# Altium schematic symbol library SCH - MCU - STM32 - ST MICROELECTRONICS STM32H563RIVX VFQFPN68.SchLib: 1 symbol
Pins are listed as number, name and electrical type; pins without a type are passive.

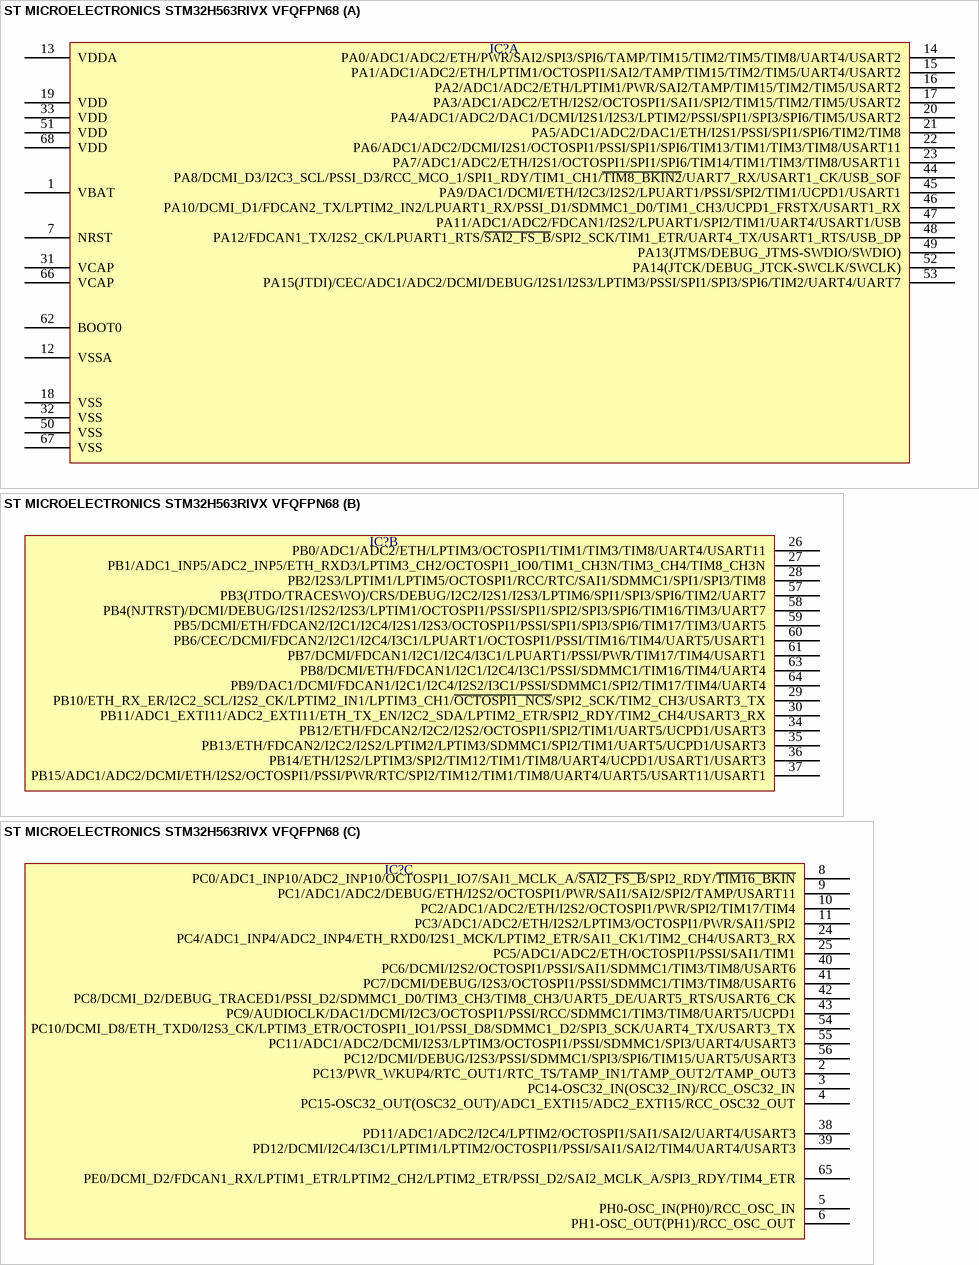
[diagram p0: symbol ST MICROELECTRONICS STM32H563RIVX VFQFPN68]

## ST MICROELECTRONICS STM32H563RIVX VFQFPN68
designator IC?  (value not drawn)
part A pins: 1 VBAT, 7 NRST, 12 VSSA, 13 VDDA, 14 PA0/ADC1/ADC2/ETH/PWR/SAI2/SPI3/SPI6/TAMP/TIM15/TIM2/TIM5/TIM8/UART4/USART2, 15 PA1/ADC1/ADC2/ETH/LPTIM1/OCTOSPI1/SAI2/TAMP/TIM15/TIM2/TIM5/UART4/USART2, 16 PA2/ADC1/ADC2/ETH/LPTIM1/PWR/SAI2/TAMP/TIM15/TIM2/TIM5/USART2, 17 PA3/ADC1/ADC2/ETH/I2S2/OCTOSPI1/SAI1/SPI2/TIM15/TIM2/TIM5/USART2, 18 VSS, 19 VDD, 20 PA4/ADC1/ADC2/DAC1/DCMI/I2S1/I2S3/LPTIM2/PSSI/SPI1/SPI3/SPI6/TIM5/USART2, 21 PA5/ADC1/ADC2/DAC1/ETH/I2S1/PSSI/SPI1/SPI6/TIM2/TIM8, 22 PA6/ADC1/ADC2/DCMI/I2S1/OCTOSPI1/PSSI/SPI1/SPI6/TIM13/TIM1/TIM3/TIM8/USART11, 23 PA7/ADC1/ADC2/ETH/I2S1/OCTOSPI1/SPI1/SPI6/TIM14/TIM1/TIM3/TIM8/USART11, 31 VCAP, 32 VSS, 33 VDD, 44 PA8/DCMI_D3/I2C3_SCL/PSSI_D3/RCC_MCO_1/SPI1_RDY/TIM1_CH1/~{TIM8_BKIN2}/UART7_RX/USART1_CK/USB_SOF, 45 PA9/DAC1/DCMI/ETH/I2C3/I2S2/LPUART1/PSSI/SPI2/TIM1/UCPD1/USART1, 46 PA10/DCMI_D1/FDCAN2_TX/LPTIM2_IN2/LPUART1_RX/PSSI_D1/SDMMC1_D0/TIM1_CH3/UCPD1_FRSTX/USART1_RX, 47 PA11/ADC1/ADC2/FDCAN1/I2S2/LPUART1/SPI2/TIM1/UART4/USART1/USB, 48 PA12/FDCAN1_TX/I2S2_CK/LPUART1_RTS/~{SAI2_FS_B}/SPI2_SCK/TIM1_ETR/UART4_TX/USART1_RTS/USB_DP, 49 PA13(JTMS/DEBUG_JTMS-SWDIO/SWDIO), 50 VSS, 51 VDD, 52 PA14(JTCK/DEBUG_JTCK-SWCLK/SWCLK), 53 PA15(JTDI)/CEC/ADC1/ADC2/DCMI/DEBUG/I2S1/I2S3/LPTIM3/PSSI/SPI1/SPI3/SPI6/TIM2/UART4/UART7, 62 BOOT0, 66 VCAP, 67 VSS, 68 VDD
part B pins: 26 PB0/ADC1/ADC2/ETH/LPTIM3/OCTOSPI1/TIM1/TIM3/TIM8/UART4/USART11, 27 PB1/ADC1_INP5/ADC2_INP5/ETH_RXD3/LPTIM3_CH2/OCTOSPI1_IO0/TIM1_CH3N/TIM3_CH4/TIM8_CH3N, 28 PB2/I2S3/LPTIM1/LPTIM5/OCTOSPI1/RCC/RTC/SAI1/SDMMC1/SPI1/SPI3/TIM8, 29 PB10/ETH_RX_ER/I2C2_SCL/I2S2_CK/LPTIM2_IN1/LPTIM3_CH1/~{OCTOSPI1_NCS}/SPI2_SCK/TIM2_CH3/USART3_TX, 30 PB11/ADC1_EXTI11/ADC2_EXTI11/ETH_TX_EN/I2C2_SDA/LPTIM2_ETR/SPI2_RDY/TIM2_CH4/USART3_RX, 34 PB12/ETH/FDCAN2/I2C2/I2S2/OCTOSPI1/SPI2/TIM1/UART5/UCPD1/USART3, 35 PB13/ETH/FDCAN2/I2C2/I2S2/LPTIM2/LPTIM3/SDMMC1/SPI2/TIM1/UART5/UCPD1/USART3, 36 PB14/ETH/I2S2/LPTIM3/SPI2/TIM12/TIM1/TIM8/UART4/UCPD1/USART1/USART3, 37 PB15/ADC1/ADC2/DCMI/ETH/I2S2/OCTOSPI1/PSSI/PWR/RTC/SPI2/TIM12/TIM1/TIM8/UART4/UART5/USART11/USART1, 57 PB3(JTDO/TRACESWO)/CRS/DEBUG/I2C2/I2S1/I2S3/LPTIM6/SPI1/SPI3/SPI6/TIM2/UART7, 58 PB4(NJTRST)/DCMI/DEBUG/I2S1/I2S2/I2S3/LPTIM1/OCTOSPI1/PSSI/SPI1/SPI2/SPI3/SPI6/TIM16/TIM3/UART7, 59 PB5/DCMI/ETH/FDCAN2/I2C1/I2C4/I2S1/I2S3/OCTOSPI1/PSSI/SPI1/SPI3/SPI6/TIM17/TIM3/UART5, 60 PB6/CEC/DCMI/FDCAN2/I2C1/I2C4/I3C1/LPUART1/OCTOSPI1/PSSI/TIM16/TIM4/UART5/USART1, 61 PB7/DCMI/FDCAN1/I2C1/I2C4/I3C1/LPUART1/PSSI/PWR/TIM17/TIM4/USART1, 63 PB8/DCMI/ETH/FDCAN1/I2C1/I2C4/I3C1/PSSI/SDMMC1/TIM16/TIM4/UART4, 64 PB9/DAC1/DCMI/FDCAN1/I2C1/I2C4/I2S2/I3C1/PSSI/SDMMC1/SPI2/TIM17/TIM4/UART4
part C pins: 2 PC13/PWR_WKUP4/RTC_OUT1/RTC_TS/TAMP_IN1/TAMP_OUT2/TAMP_OUT3, 3 PC14-OSC32_IN(OSC32_IN)/RCC_OSC32_IN, 4 PC15-OSC32_OUT(OSC32_OUT)/ADC1_EXTI15/ADC2_EXTI15/RCC_OSC32_OUT, 5 PH0-OSC_IN(PH0)/RCC_OSC_IN, 6 PH1-OSC_OUT(PH1)/RCC_OSC_OUT, 8 PC0/ADC1_INP10/ADC2_INP10/OCTOSPI1_IO7/SAI1_MCLK_A/~{SAI2_FS_B}/SPI2_RDY/~{TIM16_BKIN}, 9 PC1/ADC1/ADC2/DEBUG/ETH/I2S2/OCTOSPI1/PWR/SAI1/SAI2/SPI2/TAMP/USART11, 10 PC2/ADC1/ADC2/ETH/I2S2/OCTOSPI1/PWR/SPI2/TIM17/TIM4, 11 PC3/ADC1/ADC2/ETH/I2S2/LPTIM3/OCTOSPI1/PWR/SAI1/SPI2, 24 PC4/ADC1_INP4/ADC2_INP4/ETH_RXD0/I2S1_MCK/LPTIM2_ETR/SAI1_CK1/TIM2_CH4/USART3_RX, 25 PC5/ADC1/ADC2/ETH/OCTOSPI1/PSSI/SAI1/TIM1, 38 PD11/ADC1/ADC2/I2C4/LPTIM2/OCTOSPI1/SAI1/SAI2/UART4/USART3, 39 PD12/DCMI/I2C4/I3C1/LPTIM1/LPTIM2/OCTOSPI1/PSSI/SAI1/SAI2/TIM4/UART4/USART3, 40 PC6/DCMI/I2S2/OCTOSPI1/PSSI/SAI1/SDMMC1/TIM3/TIM8/USART6, 41 PC7/DCMI/DEBUG/I2S3/OCTOSPI1/PSSI/SDMMC1/TIM3/TIM8/USART6, 42 PC8/DCMI_D2/DEBUG_TRACED1/PSSI_D2/SDMMC1_D0/TIM3_CH3/TIM8_CH3/UART5_DE/UART5_RTS/USART6_CK, 43 PC9/AUDIOCLK/DAC1/DCMI/I2C3/OCTOSPI1/PSSI/RCC/SDMMC1/TIM3/TIM8/UART5/UCPD1, 54 PC10/DCMI_D8/ETH_TXD0/I2S3_CK/LPTIM3_ETR/OCTOSPI1_IO1/PSSI_D8/SDMMC1_D2/SPI3_SCK/UART4_TX/USART3_TX, 55 PC11/ADC1/ADC2/DCMI/I2S3/LPTIM3/OCTOSPI1/PSSI/SDMMC1/SPI3/UART4/USART3, 56 PC12/DCMI/DEBUG/I2S3/PSSI/SDMMC1/SPI3/SPI6/TIM15/UART5/USART3, 65 PE0/DCMI_D2/FDCAN1_RX/LPTIM1_ETR/LPTIM2_CH2/LPTIM2_ETR/PSSI_D2/SAI2_MCLK_A/SPI3_RDY/TIM4_ETR